# EAGLE library part LTC2851 (library di_ic)
LTC2851 - 3.3V 20Mbps RS485/RS422 Full-Duplex Transceiver Reference: http://www.linear.com/pc/downloadDocument.do?navId=H0,C1,C1007,C1017,P36294,D19198
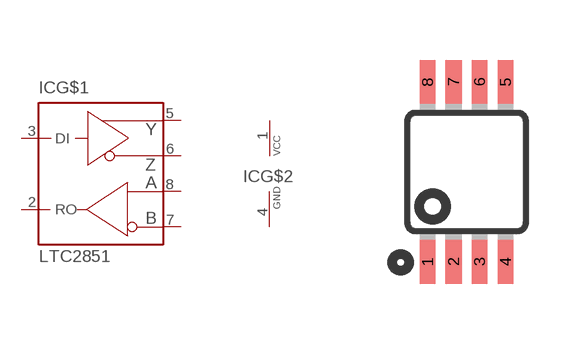
[diagram p21: symbol with the pads of MSOP8; footprint MSOP8]

Designator prefix IC; gates G$1=MAX3490 G$2=VCC-GND

## LTC2851  [MSOP8]
1  G$2:VCC  pwr
2  G$1:RO  out
3  G$1:DI  in
4  G$2:GND  pwr
5  G$1:Y  out
6  G$1:Z  out
7  G$1:B  in
8  G$1:A  in

## Footprint MSOP8 (pad centres in mm)
8M, 8-Lead, 0.118" Wide, Miniature Small Outline Package MSOP 8M-Package doc1097.pdf
smd 0.4 x 1.1: 1 -0.975,-2.25; 2 -0.325,-2.25; 3 0.325,-2.25; 4 0.975,-2.25; 5 0.975,2.25; 6 0.325,2.25; 7 -0.325,2.25; 8 -0.975,2.25